# EAGLE library part 74*04 (library E3VB_ISI)
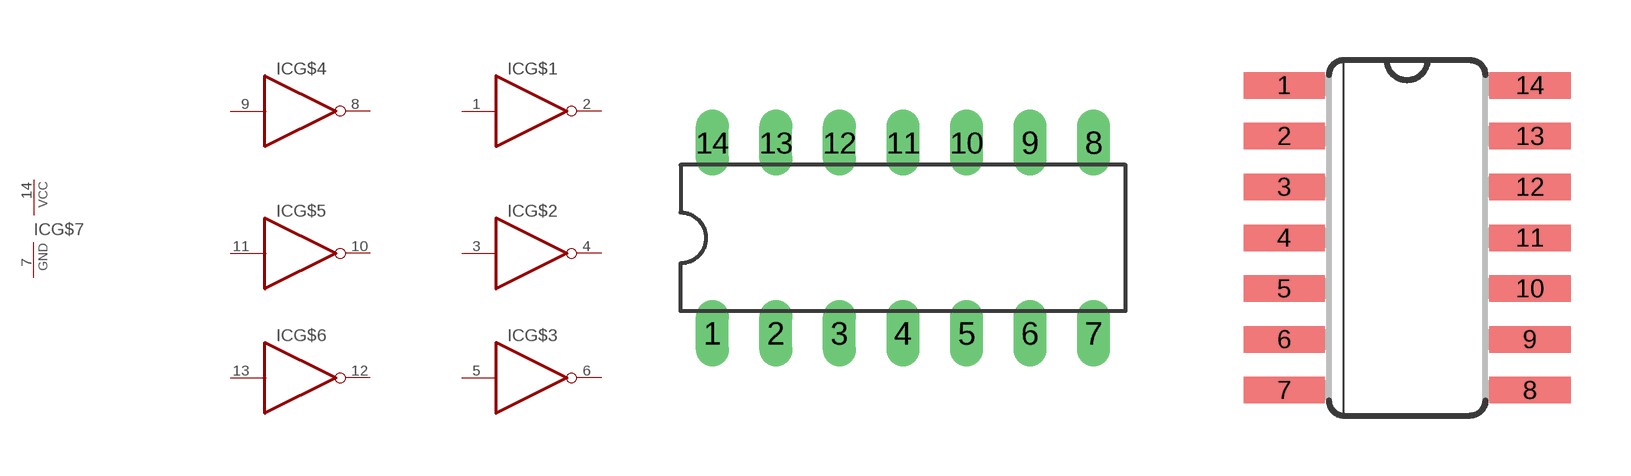
[diagram p2: symbol with the pads of 14-DIP; footprints 14-DIP, 14-SOP]

Designator prefix IC; gates G$1=INVERTER G$2=INVERTER G$3=INVERTER G$4=INVERTER G$5=INVERTER G$6=INVERTER G$7=PWRN

## 74AC04N, 74HC04N, 74HCT04N  [14-DIP]
1  G$1:I  in
2  G$1:O  out
3  G$2:I  in
4  G$2:O  out
5  G$3:I  in
6  G$3:O  out
7  G$7:GND  pwr
8  G$4:O  out
9  G$4:I  in
10  G$5:O  out
11  G$5:I  in
12  G$6:O  out
13  G$6:I  in
14  G$7:VCC  pwr

## 74AC04D, 74HC04D, 74HCT04D  [14-SOP]
Pads as for 14-DIP

## Footprint 14-DIP (pad centres in mm)
drill 0.813 long: 1 -6.35,-3.81; 2 -3.81,-3.81; 3 -1.27,-3.81; 4 1.27,-3.81; 5 3.81,-3.81; 6 6.35,-3.81; 7 8.89,-3.81; 8 8.89,3.81; 9 6.35,3.81; 10 3.81,3.81; 11 1.27,3.81; 12 -1.27,3.81; 13 -3.81,3.81; 14 -6.35,3.81

## Footprint 14-SOP (pad centres in mm)
smd 2.032 x 0.66: 1 -3.073,3.54; 2 -3.073,2.27; 3 -3.073,1; 4 -3.073,-0.27; 5 -3.073,-1.54; 6 -3.073,-2.81; 7 -3.073,-4.08; 8 3.073,-4.08; 9 3.073,-2.81; 10 3.073,-1.54; 11 3.073,-0.27; 12 3.073,1; 13 3.073,2.27; 14 3.073,3.54